# Altium footprint library IC_InvenSense_MPU-6500_eec_0.PcbLib: 1 footprints
Each footprint in its own frame and in the unit in brackets; x right, y up, seen from the top. Pads: shape width x height; smd on the part's side, far side on the other; paste and mask are expansions set on the pad; w line width, h text height; cw(c..) or ccw(c..) is an arc to the next point about the centre after c.
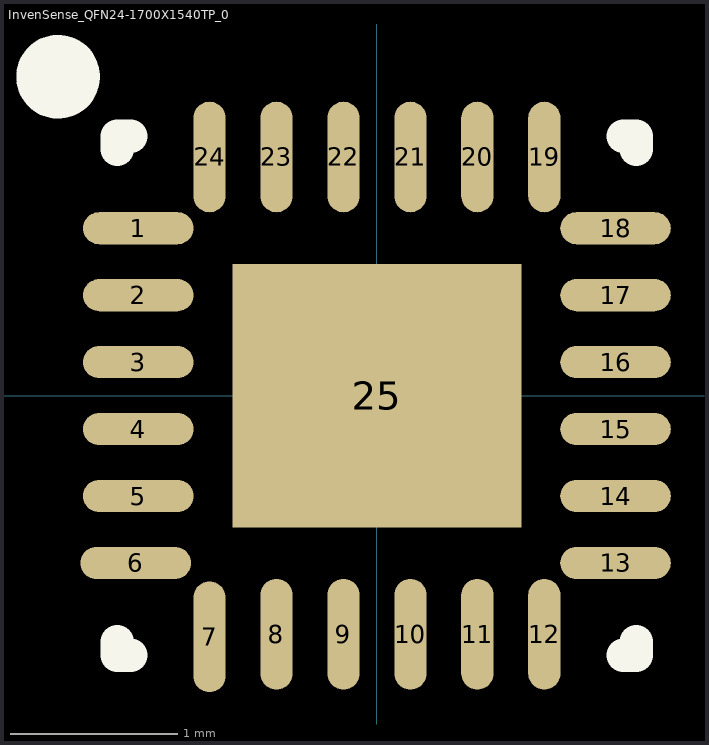
[diagram p0: the footprint, top view; thin cyan lines are the x and y axes]

## InvenSense_QFN24-1700X1540TP_0 [mm]
pads (25):
  oval 0.661x0.192 smd paste+0 mask+0.102: 1(-1.426,1) 2(-1.426,0.6) 3(-1.426,0.2) 4(-1.426,-0.2) 5(-1.426,-0.6) 6(-1.441,-1) 13(1.426,-1) 14(1.426,-0.6) 15(1.426,-0.2) 16(1.426,0.2) 17(1.426,0.6) 18(1.426,1)
  oval 0.192x0.661 smd paste+0 mask+0.102: 7(-1,-1.441) 8(-0.6,-1.426) 9(-0.2,-1.426) 10(0.2,-1.426) 11(0.6,-1.426) 12(1,-1.426) 19(1,1.426) 20(0.6,1.426) 21(0.2,1.426) 22(-0.2,1.426) 23(-0.6,1.426)
  oval 0.192x0.661 smd mask+0.102: 24(-1,1.426)
  rect 1.727x1.575 smd: 25(0,0)
Top Overlay:
  circle w0.25: c-1.905,1.905 r0.125
  lines w0.2: -1.55,-1.471 -1.55,-1.55 -1.471,-1.55 ; -1.55,1.471 -1.55,1.55 -1.471,1.55 ; 1.471,-1.55 1.55,-1.55 1.55,-1.471 ; 1.471,1.55 1.55,1.55 1.55,1.471
Mechanical 15:
  lines w0.1: -0.5,0 0.5,0 ; 0,-0.5 0,0.5
3D body "IC_InvenSense_MPU-6500_eec.STEP": height 0.25, standoff 0, extent -1.856,-1.856 1.856,1.856